# EAGLE library part L6219_STEPPER_DRIVER (library usevolt)
Datasheet: http://pdf1.alldatasheet.com/datasheet-pdf/view/22539/STMICROELECTRONICS/L6219DS.html
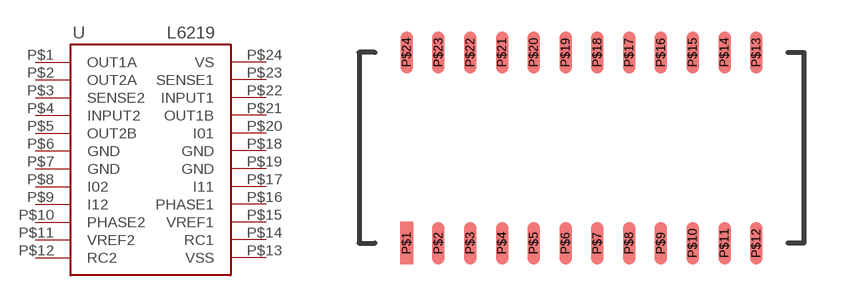
[diagram p9: symbol with the pads of SO24; footprint SO24]

Designator prefix U

## L6219_STEPPER_DRIVER  [SO24]
P$1  OUT1A
P$2  OUT2A
P$3  SENSE2
P$4  INPUT2
P$5  OUT2B
P$6  GND
P$7  GND
P$8  I02
P$9  I12
P$10  PHASE2
P$11  VREF2
P$12  RC2
P$13  VSS
P$14  RC1
P$15  VREF1
P$16  PHASE1
P$17  I11
P$18  GND
P$19  GND
P$20  I01
P$21  OUT1B
P$22  INPUT1
P$23  SENSE1
P$24  VS

## Footprint SO24 (pad centres in mm)
smd 0.51 x 1.7: P$1 -7.62,-3.81; P$2 -6.35,-3.81; P$3 -5.08,-3.81; P$4 -3.81,-3.81; P$5 -2.54,-3.81; P$6 -1.27,-3.81; P$7 0,-3.81; P$8 1.27,-3.81; P$9 2.54,-3.81; P$10 3.81,-3.81; P$11 5.08,-3.81; P$12 6.35,-3.81; P$13 6.35,3.81; P$14 5.08,3.81; P$15 3.81,3.81; P$16 2.54,3.81; P$17 1.27,3.81; P$18 0,3.81; P$19 -1.27,3.81; P$20 -2.54,3.81; P$21 -3.81,3.81; P$22 -5.08,3.81; P$23 -6.35,3.81; P$24 -7.62,3.81